# EAGLE library part TRAFO-BLOCK-VB1,0/2/ (library 1A-meinLib)
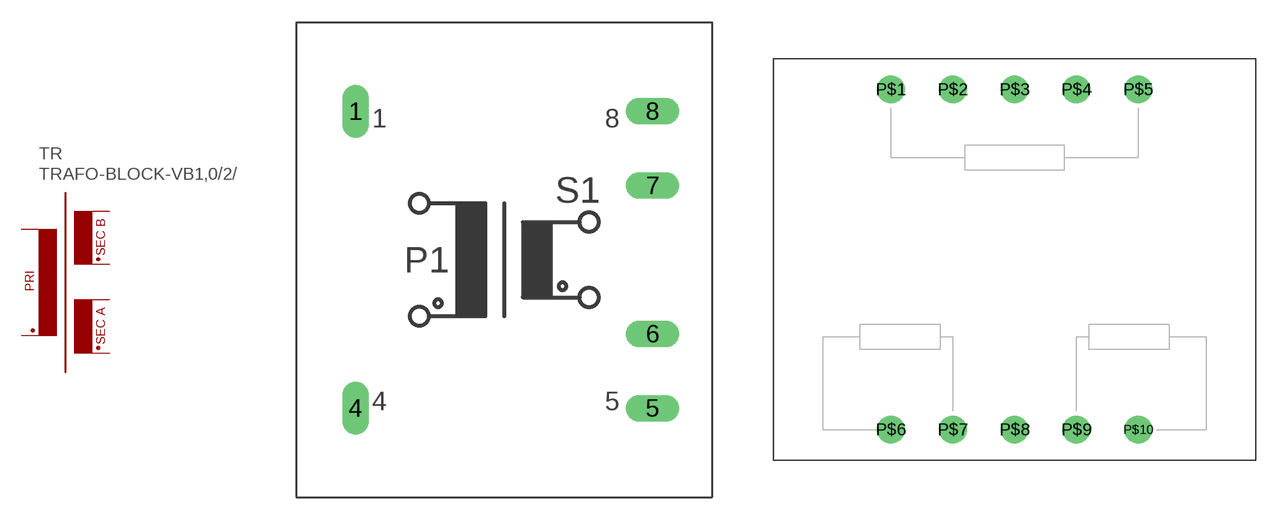
[diagram p59: symbol with the pads of TRAFO-BLOCK-VB-1VA; footprints TRAFO-BLOCK-VB-1VA, TRAFO-WALCHER-OT1-SPEC]

Designator prefix TR

## TRAFO-BLOCK-VB1,0/2/  [TRAFO-BLOCK-VB-1VA]
1  P1  pas
4  P2  pas
5  SB2  pas
6  SB1  pas
7  SA2  pas
8  SA1  pas

## TRAFO-BLOCK-VB1,0/2/B  [TRAFO-WALCHER-OT1-SPEC]
P$1  P1  pas
P$5  P2  pas
P$6  SB2  pas
P$7  SB1  pas
P$9  SA2  pas
P$10  SA1  pas

## TRAFO-BLOCK-VB1,0/2/A  [TRAFO-BLOCK-VB-1VA]
Pads as for TRAFO-BLOCK-VB-1VA

## Footprint TRAFO-BLOCK-VB-1VA (pad centres in mm)
Transformator, BLOCK, Typ VB1.0xxx bis VB2.8xxx. Lieferant: Schuricht, 1W, 22mm hoch
drill 1.2 long: 1 -10,10; 4 -10,-10; 5 10,-10; 6 10,-5; 7 10,5; 8 10,10

## Footprint TRAFO-WALCHER-OT1-SPEC (pad centres in mm)
drill 1.5 round: P$1 -10,10; P$2 -5,10; P$3 0,10; P$4 5,10; P$5 10,10; P$6 -10,-17.5; P$7 -5,-17.5; P$8 0,-17.5; P$9 5,-17.5; P$10 10,-17.5